# EAGLE library part AD8029 (library analog-devices)
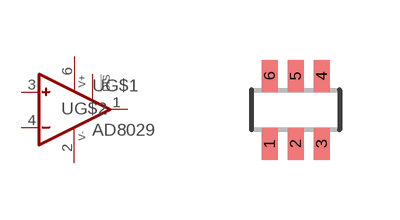
[diagram p66: symbol with the pads of SC70-6L; footprint SC70-6L]

Designator prefix U; gates G$1=OP G$2=PWR+- G$3=!DIS

## AD8029 (DIGIKEY: AD8029AKSZ-REEL7CT-ND; P1I: o)  [SC70-6L]
1  G$1:OUT  out
2  G$2:V-  pwr
3  G$1:IN+  in
4  G$1:IN-  in
5  G$3:!DIS
6  G$2:V+  pwr

## Footprint SC70-6L (pad centres in mm)
SC-70 Package
smd 0.4 x 0.8: 1 -0.65,-0.85; 2 0,-0.85; 3 0.65,-0.85; 4 0.65,0.85; 5 0,0.85; 6 -0.65,0.85